# Altium footprint library SOD123Z.PcbLib: 1 footprints
Each footprint in its own frame and in the unit in brackets; x right, y up, seen from the top. Pads: shape width x height; smd on the part's side, far side on the other; paste and mask are expansions set on the pad; w line width, h text height; cw(c..) or ccw(c..) is an arc to the next point about the centre after c.
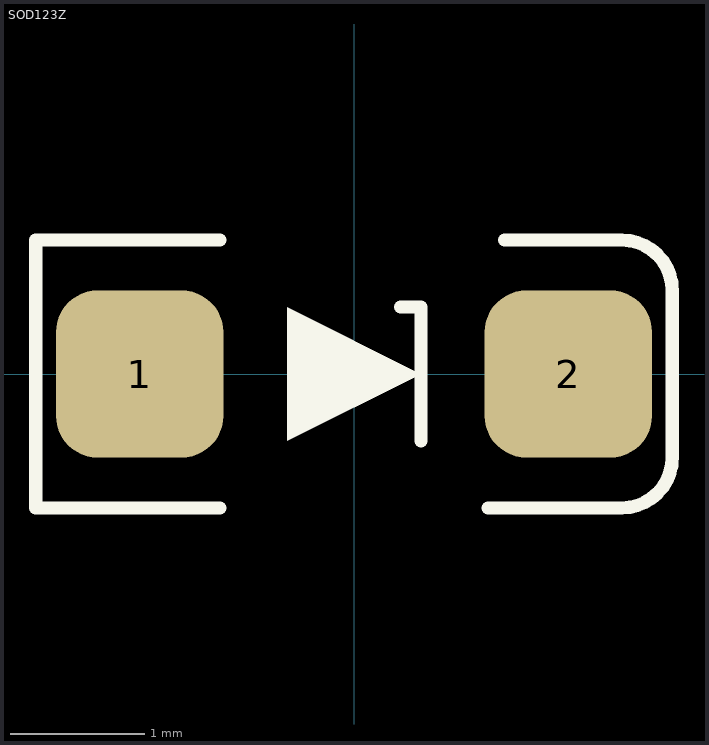
[diagram p0: the footprint, top view; thin cyan lines are the x and y axes]

## SOD123Z [mm]
height 1.6
pads (2):
  rrect50% 1.25x1.25 smd: 1(-1.6,0) 2(1.6,0)
Top Overlay:
  region: -0.5,0.5 0.5,0 -0.5,-0.5
  lines w0.1: -1,-1 -2.375,-1 -2.375,1 -1,1 ; 0.35,0.5 0.5,0.5 0.5,-0.5 ; 1,-1 2,-1 ccw(c2,-0.625) 2.375,-0.625 2.375,0.625 ccw(c2,0.625) 2,1 1.125,1
3D body "SOD123.STEP": height 1.18, standoff 0, extent -1.95,-0.9 1.95,0.9